# Altium footprint library condo_alim1.PcbLib: 1 footprints
Each footprint in its own frame and in the unit in brackets; x right, y up, seen from the top. Pads: shape width x height; smd on the part's side, far side on the other; paste and mask are expansions set on the pad; w line width, h text height; cw(c..) or ccw(c..) is an arc to the next point about the centre after c.
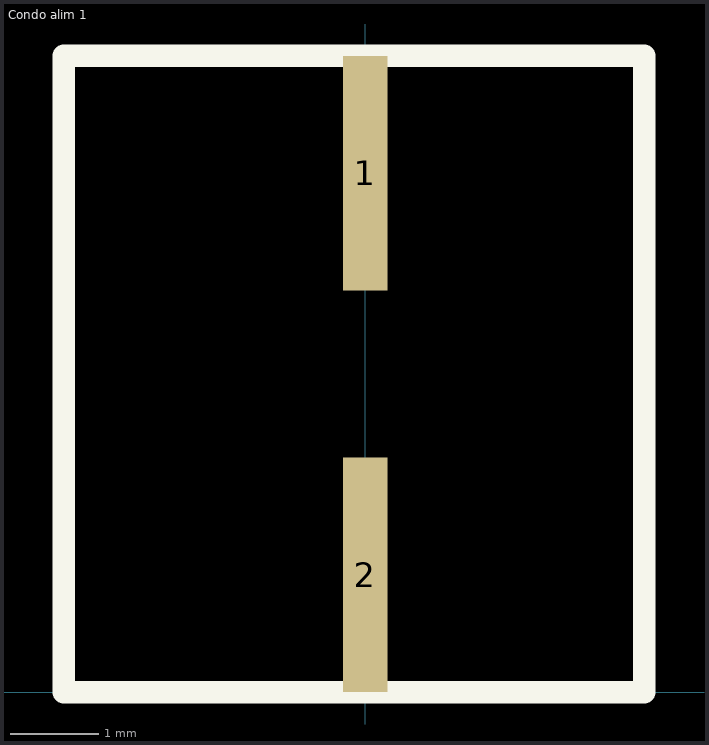
[diagram p0: the footprint, top view; thin cyan lines are the x and y axes]

## Condo alim 1 [mil]
pads (2):
  rect 20x105 smd: 1(0,232.5) 2(0,52.5)
Top Overlay:
  lines w10: -135,0 -135,285 125,285 125,0 0,0 -135,0